# Altium schematic symbol library Useful graphics.SchLib: 1 symbol
Pins are listed as number, name and electrical type; pins without a type are passive.

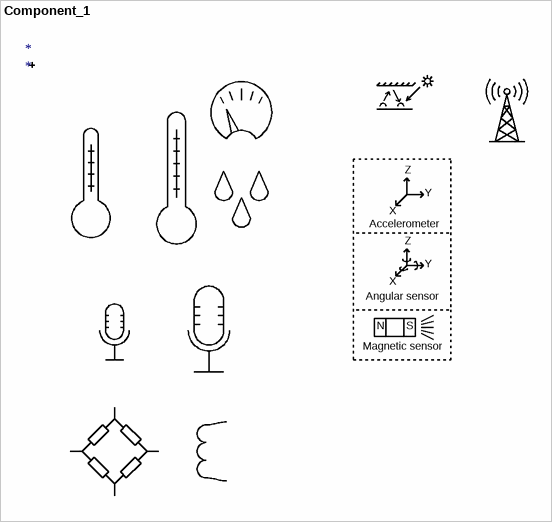
[diagram p0: symbol Component_1]

## Component_1
designator *
text: Z; Y; X; Accelerometer; Angular sensor; N; S; Magnetic sensor